# Altium footprint library XFMR_SLLC-ETD39-48.PcbLib: 1 footprints
Each footprint in its own frame and in the unit in brackets; x right, y up, seen from the top. Pads: shape width x height; smd on the part's side, far side on the other; paste and mask are expansions set on the pad; w line width, h text height; cw(c..) or ccw(c..) is an arc to the next point about the centre after c.
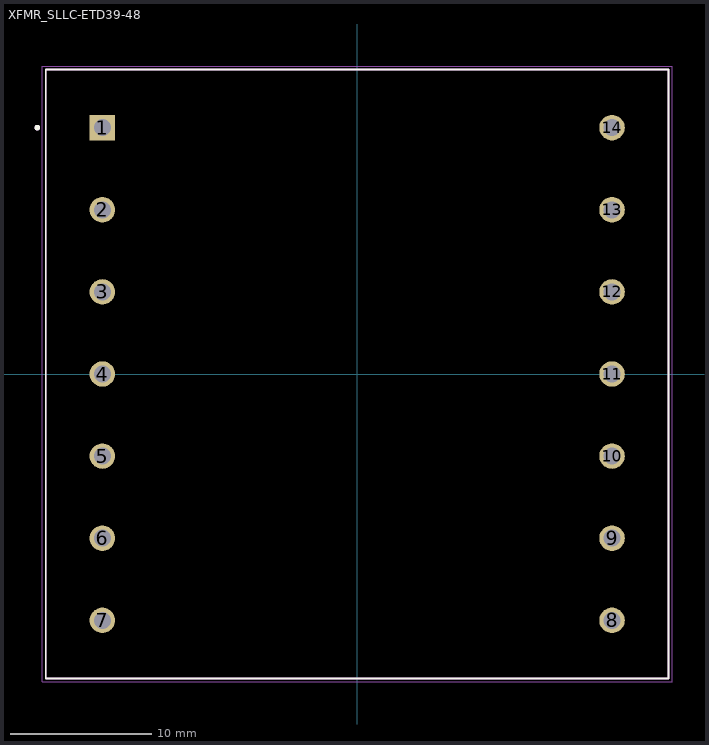
[diagram p0: the footprint, top view; thin cyan lines are the x and y axes]

## XFMR_SLLC-ETD39-48 [mm]
height 30
pads (14):
  rect 1.8x1.8 / inner round 1.8 / far side rect 1.8x1.8 hole 1.2: 1(-18,17.4)
  round 1.8 hole 1.2: 2(-18,11.6) 3(-18,5.8) 4(-18,0) 5(-18,-5.8) 6(-18,-11.6) 7(-18,-17.4) 8(18,-17.4) 9(18,-11.6) 10(18,-5.8) 11(18,0) 12(18,5.8) 13(18,11.6) 14(18,17.4)
Top Overlay:
  circle w0.2: c-22.6,17.4 r0.1
  lines w0.127: -22,-21.5 -22,21.5 22,21.5 22,-21.5 -22,-21.5
Assembly Top:
  circle w0.2: c-22.6,17.4 r0.1
  lines w0.127: -22,-21.5 -22,21.5 22,21.5 22,-21.5 -22,-21.5
Courtyard Top:
  lines w0.05: -22.25,-21.75 -22.25,21.75 22.25,21.75 22.25,-21.75 -22.25,-21.75